# Altium footprint library alientek_sch_lib.PcbLib: 370 footprints (part 18 of 24)
Each footprint in its own frame and in the unit in brackets; x right, y up, seen from the top. Pads: shape width x height; smd on the part's side, far side on the other; paste and mask are expansions set on the pad; w line width, h text height; cw(c..) or ccw(c..) is an arc to the next point about the centre after c.
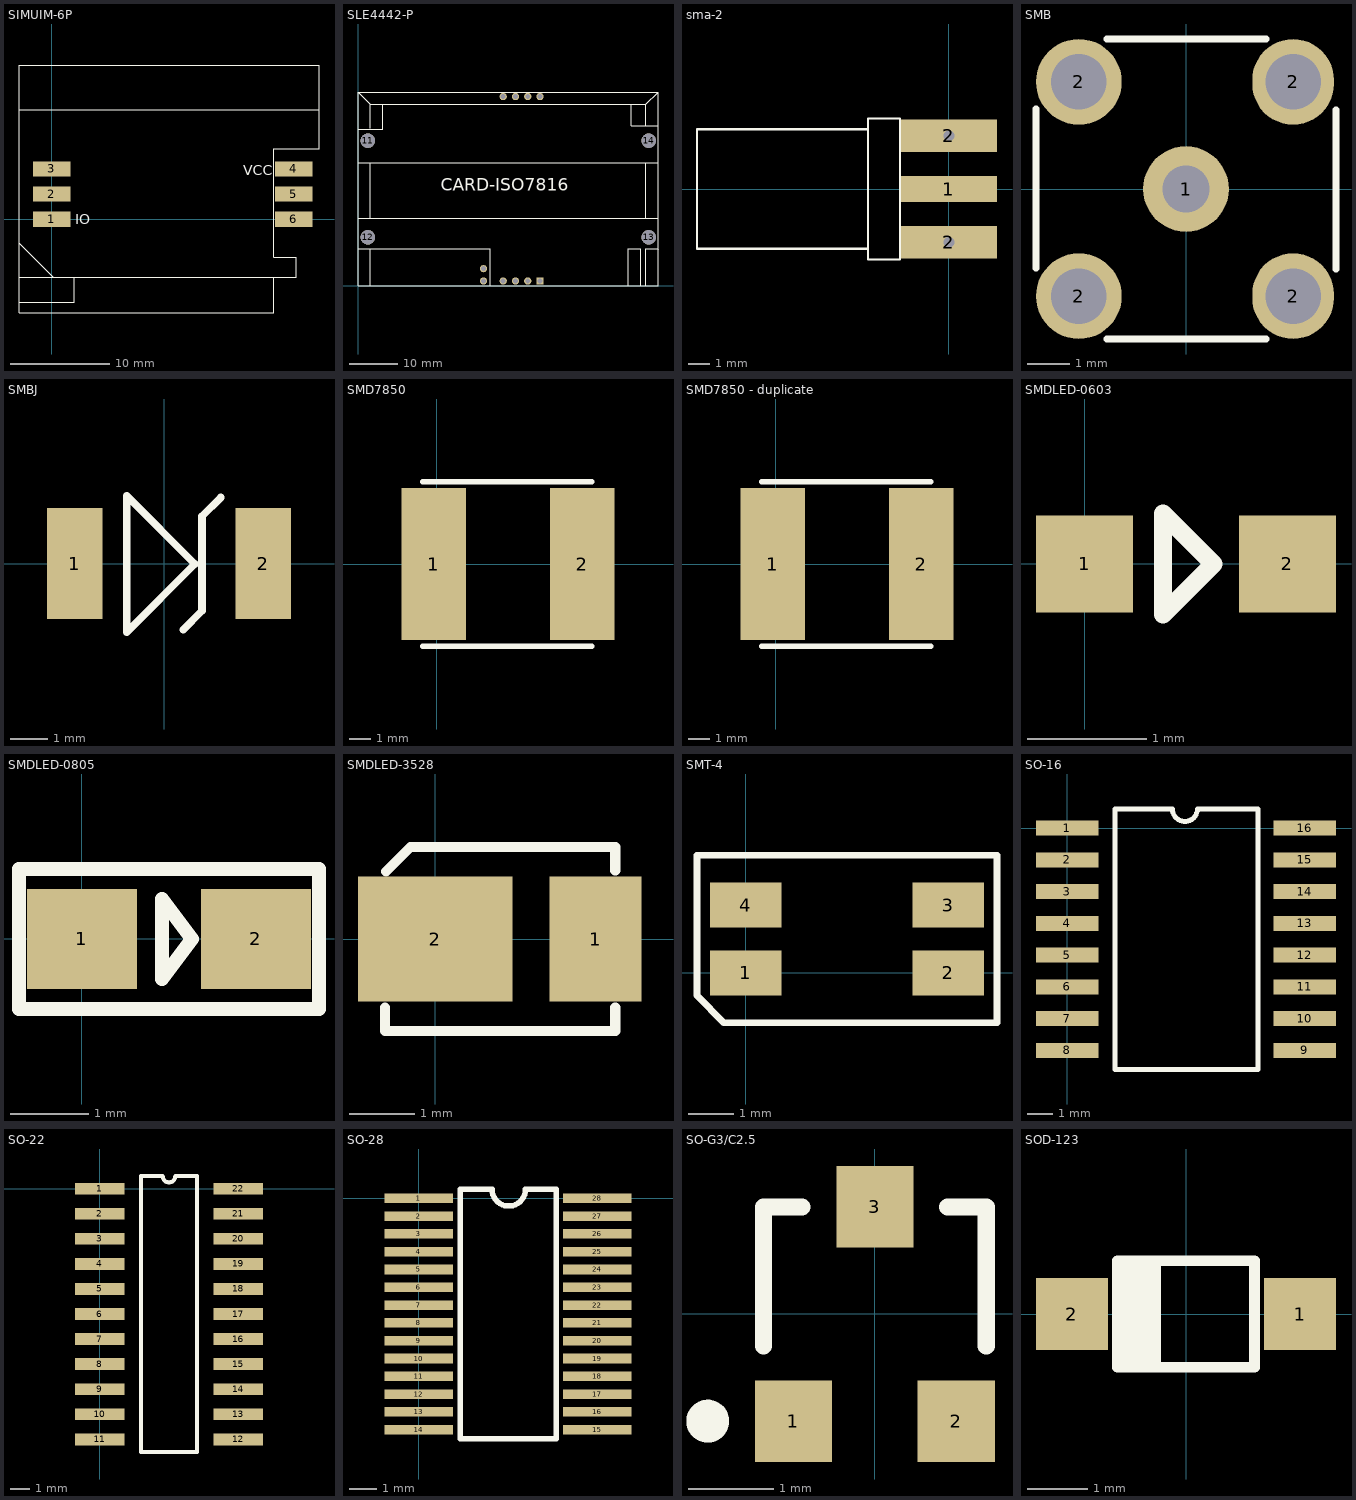
[diagram p17: the footprints below, top view; thin cyan lines are the x and y axes]

## SIMUIM-6P [mil] "SIM;SAM;"
height 78.74
pads (6):
  rect 150x60 smd: 1(0,0) 2(0,100) 3(0,200) 4(960,200) 5(960,100) 6(960,0)
Top Overlay:
  lines w4: -130,-330 60,-330 90,-330 90,-230 ; -130,-230 60,-230 890,-230 970,-230 970,-150 890,-150 880,-150 880,280 890,280 1060,280 1060,610 -130,610 -130,-95 ; -130,435 1060,435 ; 5,-230 -130,-95 ; 880,-230 880,-370 -130,-370 -130,-95
  text "VCC" at 760,174 h40
  text "IO" at 93,-19 h40

## SLE4442-P [mm] "SLE4442CARD,ISO7816"
height 1
pads (14):
  rect 1.5x1.5 hole 1: 1(37.62,1)
  round 1.5 hole 1: 2(35.08,1) 3(32.54,1) 4(30,1) 5(37.62,39.1) 6(35.08,39.1) 7(32.54,39.1) 8(30,39.1) 9(25.936,1) 10(25.936,3.54)
  round 3 hole 3: 11(2.032,30) 12(2.032,10) 13(60.071,10) 14(60.071,30)
Top Overlay:
  lines w0.178: 0,7.62 27.305,7.62 27.305,0 ; 0,13.97 61.873,13.97 ; 0,25.4 62,25.4 ; 0,32.385 5.08,32.385 5.08,37.465 ; 0,39.878 0.127,39.878 2.54,37.465 ; 2.54,0 2.54,7.493 ; 2.54,13.97 2.54,25.4 ; 2.54,32.512 2.54,37.465 ; 55.88,0 55.88,7.62 58.42,7.62 58.42,0 ; 56.515,37.465 56.515,33.02 62,33.02 ; 59.436,0 59.436,7.62 61.873,7.62 62,7.493 ; 59.436,13.97 59.436,25.4 ; 59.436,33.089 59.465,33.118 59.465,37.465 ; 2.54,37.465 59.465,37.465 ; 59.465,37.465 62,40 ; 62,40 0,40 0,0 62,0 62,40
  text "CARD-ISO7816" at 17.145,19.685 h2.54

## sma-2 [mm]
pads (3):
  rect 4.5x1.2 smd: 1(0,0)
  rect 4.5x1.524 hole 0.5: 2(0,-2.5) 2(0,2.5)
Top Overlay:
  lines w0.1: -3.8,-2.8 -11.8,-2.8 -11.8,2.8 -3.8,2.8 ; -3.8,-3.3 -2.3,-3.3 -2.3,3.3 -3.8,3.3 -3.8,-3.3

## SMB [mm]
pads (5):
  round 2 hole 1.1: 1(0,0)
  round 2 hole 1.3: 2(-2.5,-2.5) 2(-2.5,2.5)
  oval 1.905x2 hole 1.3: 2(2.5,-2.5) 2(2.5,2.5)
Top Overlay:
  lines w0.152: -3.5,-1.85 -3.5,1.875 ; -1.85,-3.5 1.875,-3.5 ; -1.85,3.5 1.875,3.5 ; 3.5,-1.875 3.5,1.85

## SMBJ [mm] "3.6*5.4"
height 2
pads (2):
  rect 1.5x3 smd: 1(-2.413,0) 2(2.667,0)
Top Overlay:
  lines w0.203: 0.508,-1.778 1.016,-1.27 1.016,1.27 1.524,1.778 ; -1.016,-1.854 0.826,-0.013 -1.016,1.829 -1.016,-1.854

## SMD7850 [mm]
height 5
pads (2):
  rect 3x7 smd: 1(-0.127,0) 2(6.731,0)
Top Overlay:
  lines w0.254: -0.635,-3.81 7.165,-3.81 ; -0.635,3.81 7.165,3.81

## SMD7850 - duplicate [mm]
height 5
pads (2):
  rect 3x7 smd: 1(-0.127,0) 2(6.731,0)
Top Overlay:
  lines w0.254: -0.635,-3.81 7.165,-3.81 ; -0.635,3.81 7.165,3.81

## SMDLED-0603 [mil] "0603"
height 50
pads (2):
  rect 32x32 smd: 1(0,0) 2(66.93,0)
Top Overlay:
  lines w6: 25.91,-16.61 42.48,-0.04 25.91,16.54 25.91,-0.04 25.91,-16.61

## SMDLED-0805 [mm] "0805"
height 1.27
pads (2):
  rect 1.4x1.27 smd: 1(0.001,-0.002) 2(2.211,-0.002)
Top Overlay:
  lines w0.178: 3.012,0.887 3.011,0.887 ; 3.011,0.887 3.011,-0.891 -0.799,-0.891 -0.799,-0.002 -0.799,0.887 3.011,0.887 ; 1.017,-0.51 1.017,0.506 1.398,-0.002 1.017,-0.51

## SMDLED-3528 [mm] "3528"
height 0.8
pads (2):
  rect 1.4x1.9 smd: 1(2.438,0)
  rect 2.35x1.9 smd: 2(0,0)
Top Overlay:
  lines w0.152: -0.762,-1.041 -0.762,-1.397 2.738,-1.397 2.738,-1.041 ; -0.749,1.029 -0.375,1.403 2.738,1.403 2.738,1.041

## SMT-4 [mm]
pads (4):
  rect 1.575x1 smd: 1(0,0) 2(4.475,0) 3(4.475,1.5) 4(0,1.5)
Top Overlay:
  lines w0.152: -1.075,-0.5 -0.475,-1.1 5.55,-1.1 5.55,2.6 -1.075,2.6 -1.075,-0.5

## SO-16 [mm] "16 leads,body width 7.5mm,pitch 1.27mm"
height 2.45
pads (16):
  rect 2.5x0.6 smd: 1(0,0) 2(0,-1.27) 3(0,-2.54) 4(0,-3.81) 5(0,-5.08) 6(0,-6.35) 7(0,-7.62) 8(0,-8.89) 9(9.5,-8.89) 10(9.5,-7.62) 11(9.5,-6.35) 12(9.5,-5.08) 13(9.5,-3.81) 14(9.5,-2.54) 15(9.5,-1.27) 16(9.5,0)
Top Overlay:
  lines w0.2: 1.905,-9.652 1.905,0.762 4.207,0.762 ccw(c4.707,0.762) 5.207,0.762 7.62,0.762 7.62,-9.652 1.905,-9.652

## SO-22 [mm] "BH1417"
height 2
pads (22):
  rect 2.5x0.6 smd: 1(0,0) 2(0,-1.27) 3(0,-2.54) 4(0,-3.81) 5(0,-5.08) 6(0,-6.35) 7(0,-7.62) 8(0,-8.89) 9(0,-10.16) 10(0,-11.43) 11(0,-12.7) 12(7,-12.7) 13(7,-11.43) 14(7,-10.16) 15(7,-8.89) 16(7,-7.62) 17(7,-6.35) 18(7,-5.08) 19(7,-3.81) 20(7,-2.54) 21(7,-1.27) 22(7,0)
Top Overlay:
  lines w0.2: 2.085,-13.335 4.915,-13.335 4.915,0.635 3.818,0.635 cw(c3.5,0.635) 3.183,0.635 2.085,0.635 2.085,-13.335

## SO-28 [mm] "PCM2702"
height 2
pads (28):
  rect 2.5x0.35 smd: 1(0,0) 2(0,-0.65) 3(0,-1.3) 4(0,-1.95) 5(0,-2.6) 6(0,-3.25) 7(0,-3.9) 8(0,-4.55) 9(0,-5.2) 10(0,-5.85) 11(0,-6.5) 12(0,-7.15) 13(0,-7.8) 14(0,-8.45) 15(6.5,-8.45) 16(6.5,-7.8) 17(6.5,-7.15) 18(6.5,-6.5) 19(6.5,-5.85) 20(6.5,-5.2) 21(6.5,-4.55) 22(6.5,-3.9) 23(6.5,-3.25) 24(6.5,-2.6) 25(6.5,-1.95) 26(6.5,-1.3) 27(6.5,-0.65) 28(6.5,0)
Top Overlay:
  lines w0.2: 4.992,-8.775 1.501,-8.775 1.501,0.325 2.667,0.325 ccw(c3.277,0.325) 3.886,0.325 4.999,0.325 ; 5.004,-8.77 5.004,0.33

## SO-G3/C2.5 [mm] "SOT-23; 3 Leads; Body 3.0 x 2.6 mm, inc. leads (LxW max)"
height 1.1
pads (3):
  rect 0.9x0.95 smd: 1(-0.95,-1.25) 2(0.95,-1.25) 3(0,1.25)
Top Overlay:
  circle w0.25: c-1.95,-1.25 r0.125
  lines w0.2: -1.3,-0.375 -1.3,1.25 -0.85,1.25 ; 0.85,1.25 1.3,1.25 1.3,-0.375

## SOD-123 [mm]
height 1
pads (2):
  rect 1.2x1.2 smd: 1(1.905,0) 2(-1.905,0)
Top Overlay:
  rectangle: -1.143,-0.889 -0.508,0.889
  lines w0.178: -0.508,-0.889 -0.508,0.889 ; -1.143,-0.889 -1.143,0.889 1.143,0.889 1.143,0.445 1.143,-0.445 1.143,-0.889 -1.143,-0.889